# Altium integrated library Atmel RF Identification.IntLib: 23 symbols
Pins are listed as number, name and electrical type; pins without a type are passive.

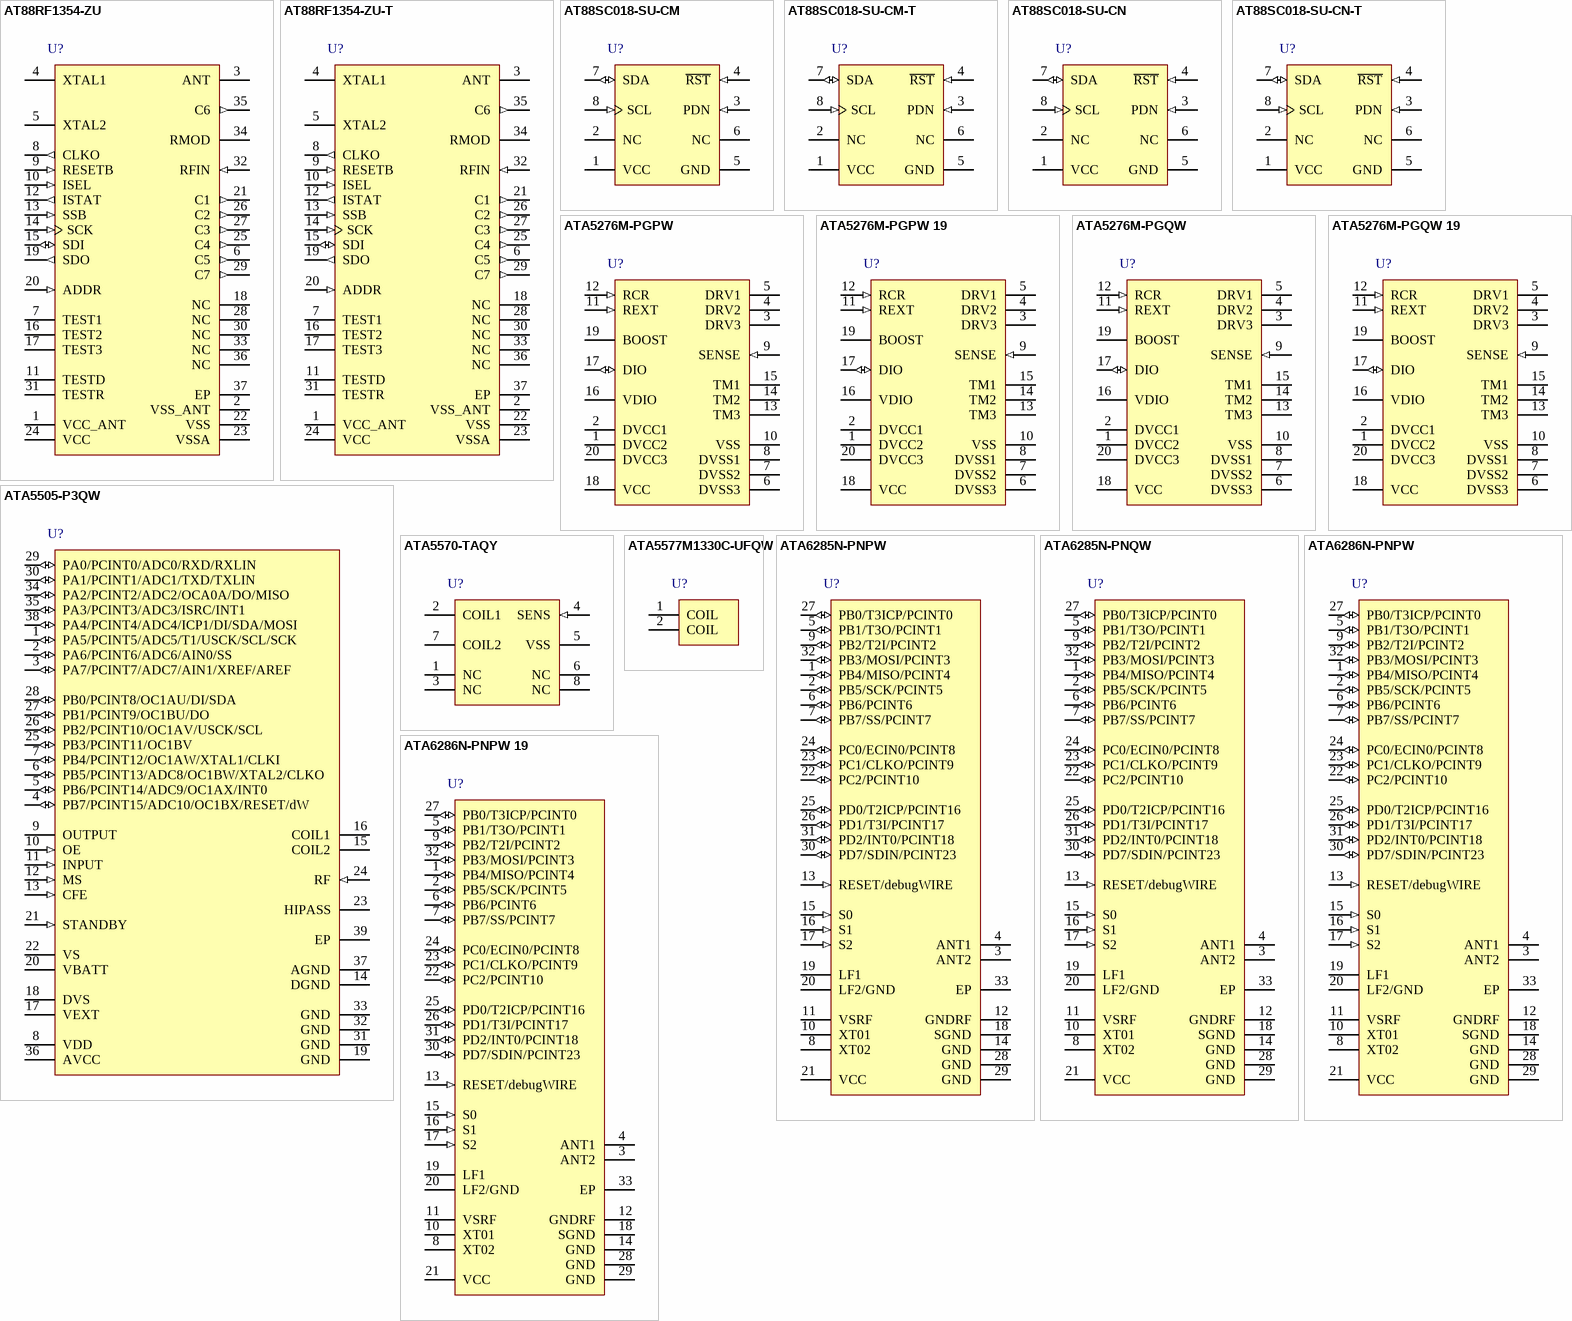
[diagram p0: symbols AT88RF1354-ZU to ATA6286N-PNPW 19]

## AT88RF1354-ZU
designator U?
13.56 MHz Type B RF Reader, 36 pin QFN thermal package, 6 x 6 mm, Green (exceeds RoHS), Industrial Grade (-40°C to 85°C),Tray; DatasheetVersion: revB, Mar-2009; PackageVersion: revA, Aug-2008; PackageReference: 36ML1; PackageDescription: 36-Pin Molded Quad Flat No-Lead, 6 x 6 mm Body, 0.5 mm Pitch, Punched (QFN); Code_JEDEC: MO-220WJJD-1; ComponentLink1Description: Manufacturer URL; ComponentLink1URL: http://www.atmel.com/; ComponentLink2Description: AT88RF1354 Datasheet; ComponentLink2URL: http://www.atmel.com/Images/doc8547.pdf
footprint 36ML1_N (QFN, 36-Leads, Body 6x6mm, Pitch 0.5mm, Thermal Pad 3.8x3.8mm, IPC Medium Density)
footprint 36ML1_L (QFN, 36-Leads, Body 6x6mm, Pitch 0.5mm, Thermal Pad 3.8x3.8mm, IPC High Density)
footprint 36ML1_M (QFN, 36-Leads, Body 6x6mm, Pitch 0.5mm, Thermal Pad 3.8x3.8mm, IPC Low Density)
pins: 1 VCC_ANT (power), 2 VSS_ANT (power), 3 ANT (oc), 4 XTAL1, 5 XTAL2, 6 C5 (out), 7 TEST1, 8 CLKO (out), 9 RESETB (in), 10 ISEL (in), 11 TESTD, 12 ISTAT (out), 13 SSB (in), 14 SCK (in), 15 SDI (io), 16 TEST2, 17 TEST3, 18 NC, 19 SDO (out), 20 ADDR (in), 21 C1 (out), 22 VSS (power), 23 VSSA (power), 24 VCC (power), 25 C4 (out), 26 C2 (out), 27 C3 (out), 28 NC, 29 C7 (out), 30 NC, 31 TESTR, 32 RFIN (in), 33 NC, 34 RMOD, 35 C6 (out), 36 NC, 37 EP (power)

## AT88RF1354-ZU-T
designator U?
13.56 MHz Type B RF Reader, 36 pin QFN thermal package, 6 x 6 mm, Green (exceeds RoHS), Industrial Grade (-40°C to 85°C), Reel; DatasheetVersion: revB, Mar-2009; PackageVersion: revA, Aug-2008; PackageReference: 36ML1; PackageDescription: 36-Pin Molded Quad Flat No-Lead, 6 x 6 mm Body, 0.5 mm Pitch, Punched (QFN); Code_JEDEC: MO-220WJJD-1; ComponentLink1Description: Manufacturer URL; ComponentLink1URL: http://www.atmel.com/; ComponentLink2Description: AT88RF1354 Datasheet; ComponentLink2URL: http://www.atmel.com/Images/doc8547.pdf
footprint 36ML1_N (QFN, 36-Leads, Body 6x6mm, Pitch 0.5mm, Thermal Pad 3.8x3.8mm, IPC Medium Density)
footprint 36ML1_L (QFN, 36-Leads, Body 6x6mm, Pitch 0.5mm, Thermal Pad 3.8x3.8mm, IPC High Density)
footprint 36ML1_M (QFN, 36-Leads, Body 6x6mm, Pitch 0.5mm, Thermal Pad 3.8x3.8mm, IPC Low Density)
pins: 1 VCC_ANT (power), 2 VSS_ANT (power), 3 ANT (oc), 4 XTAL1, 5 XTAL2, 6 C5 (out), 7 TEST1, 8 CLKO (out), 9 RESETB (in), 10 ISEL (in), 11 TESTD, 12 ISTAT (out), 13 SSB (in), 14 SCK (in), 15 SDI (io), 16 TEST2, 17 TEST3, 18 NC, 19 SDO (out), 20 ADDR (in), 21 C1 (out), 22 VSS (power), 23 VSSA (power), 24 VCC (power), 25 C4 (out), 26 C2 (out), 27 C3 (out), 28 NC, 29 C7 (out), 30 NC, 31 TESTR, 32 RFIN (in), 33 NC, 34 RMOD, 35 C6 (out), 36 NC, 37 EP (power)

## AT88SC018-SU-CM
designator U?
CryptoCompanion Chip for CryptoMemory and CryptoRF, Memory Locking, 8-Pin SOIC, GreenCompliant (exceeds RoHS), Industrial Grade (-40°C to 85°C), Bulk; DatasheetVersion: revC, Sep-2009; PackageVersion: revC, Mar-2005; PackageReference: 8S1; PackageDescription: 8-Lead (0.150" Wide Body), Plastic Gull Wing Small Outline (JEDEC SOIC); Code_JEDEC: MS-012-AA; Code_IPC: SOIC127P600-8; ComponentLink1Description: Manufacturer URL; ComponentLink1URL: http://www.atmel.com/; ComponentLink2Description: AT88SC018 Datasheet; ComponentLink2URL: http://www.atmel.com/Images/doc5277.pdf
footprint 8S1_N (SOIC, 8-Leads, Body 4.9x3.9mm, Pitch 1.27mm, IPC Medium Density)
footprint 8S1_L (SOIC, 8-Leads, Body 4.9x3.9mm, Pitch 1.27mm, IPC High Density)
footprint 8S1_M (SOIC, 8-Leads, Body 4.9x3.9mm, Pitch 1.27mm, IPC Low Density)
pins: 1 VCC (power), 2 NC, 3 PDN (in), 4 ~{RST} (in), 5 GND (power), 6 NC, 7 SDA (io), 8 SCL (in)

## AT88SC018-SU-CM-T
designator U?
CryptoCompanion Chip for CryptoMemory and CryptoRF, Memory Locking, 8-Pin SOIC, GreenCompliant (exceeds RoHS), Industrial Grade (-40°C to 85°C), Reel; DatasheetVersion: revC, Sep-2009; PackageVersion: revC, Mar-2005; PackageReference: 8S1; PackageDescription: 8-Lead (0.150" Wide Body), Plastic Gull Wing Small Outline (JEDEC SOIC); Code_JEDEC: MS-012-AA; Code_IPC: SOIC127P600-8; ComponentLink1Description: Manufacturer URL; ComponentLink1URL: http://www.atmel.com/; ComponentLink2Description: AT88SC018 Datasheet; ComponentLink2URL: http://www.atmel.com/Images/doc5277.pdf
footprint 8S1_N (SOIC, 8-Leads, Body 4.9x3.9mm, Pitch 1.27mm, IPC Medium Density)
footprint 8S1_L (SOIC, 8-Leads, Body 4.9x3.9mm, Pitch 1.27mm, IPC High Density)
footprint 8S1_M (SOIC, 8-Leads, Body 4.9x3.9mm, Pitch 1.27mm, IPC Low Density)
pins: 1 VCC (power), 2 NC, 3 PDN (in), 4 ~{RST} (in), 5 GND (power), 6 NC, 7 SDA (io), 8 SCL (in)

## AT88SC018-SU-CN
designator U?
CryptoCompanion Chip for CryptoMemory and CryptoRF, Memory Locking, 8-Pin SOIC, GreenCompliant (exceeds RoHS), Industrial Grade (-40°C to 85°C), Bulk; DatasheetVersion: revC, Sep-2009; PackageVersion: revC, Mar-2005; PackageReference: 8S1; PackageDescription: 8-Lead (0.150" Wide Body), Plastic Gull Wing Small Outline (JEDEC SOIC); Code_JEDEC: MS-012-AA; Code_IPC: SOIC127P600-8; ComponentLink1Description: Manufacturer URL; ComponentLink1URL: http://www.atmel.com/; ComponentLink2Description: AT88SC018 Datasheet; ComponentLink2URL: http://www.atmel.com/Images/doc5277.pdf
footprint 8S1_N (SOIC, 8-Leads, Body 4.9x3.9mm, Pitch 1.27mm, IPC Medium Density)
footprint 8S1_L (SOIC, 8-Leads, Body 4.9x3.9mm, Pitch 1.27mm, IPC High Density)
footprint 8S1_M (SOIC, 8-Leads, Body 4.9x3.9mm, Pitch 1.27mm, IPC Low Density)
pins: 1 VCC (power), 2 NC, 3 PDN (in), 4 ~{RST} (in), 5 GND (power), 6 NC, 7 SDA (io), 8 SCL (in)

## AT88SC018-SU-CN-T
designator U?
CryptoCompanion Chip for CryptoMemory and CryptoRF, Memory Locking, 8-Pin SOIC, GreenCompliant (exceeds RoHS), Industrial Grade (-40°C to 85°C), Reel; DatasheetVersion: revC, Sep-2009; PackageVersion: revC, Mar-2005; PackageReference: 8S1; PackageDescription: 8-Lead (0.150" Wide Body), Plastic Gull Wing Small Outline (JEDEC SOIC); Code_JEDEC: MS-012-AA; Code_IPC: SOIC127P600-8; ComponentLink1Description: Manufacturer URL; ComponentLink1URL: http://www.atmel.com/; ComponentLink2Description: AT88SC018 Datasheet; ComponentLink2URL: http://www.atmel.com/Images/doc5277.pdf
footprint 8S1_N (SOIC, 8-Leads, Body 4.9x3.9mm, Pitch 1.27mm, IPC Medium Density)
footprint 8S1_L (SOIC, 8-Leads, Body 4.9x3.9mm, Pitch 1.27mm, IPC High Density)
footprint 8S1_M (SOIC, 8-Leads, Body 4.9x3.9mm, Pitch 1.27mm, IPC Low Density)
pins: 1 VCC (power), 2 NC, 3 PDN (in), 4 ~{RST} (in), 5 GND (power), 6 NC, 7 SDA (io), 8 SCL (in)

## ATA5276M-PGPW
designator U?
Integrated 1.5A Peak Current BCDMOS Antenna Driver, for 125 kHz Wake-up Channel Transmitter for TPM, 20-Pin QFN, -40°C to 105°C, Pb-Free, 1.5K Reel; DatasheetVersion: revC, Jan-2007; PackageVersion: rev3, Jan-2003; PackageReference: PG20; PackageDescription: 20-Pin Quad Flat No-Lead, 5 x 5 mm Body, 0.65 mm Pitch, 2.7 x 2.7 mm Exposed Pad; Code_JEDEC: MO-220; ComponentLink1Description: Manufacturer URL; ComponentLink1URL: http://www.atmel.com/; ComponentLink2Description: ATA5276M Datasheet; ComponentLink2URL: http://www.atmel.com/Images/doc4909.pdf
footprint PG20_N (QFN, 20-Leads, Body 5x5mm, Pitch 0.65mm, Thermal Pad 2.7x2.7mm, IPC Medium Density)
footprint PG20_L (QFN, 20-Leads, Body 5x5mm, Pitch 0.65mm, Thermal Pad 2.7x2.7mm, IPC High Density)
footprint PG20_M (QFN, 20-Leads, Body 5x5mm, Pitch 0.65mm, Thermal Pad 2.7x2.7mm, IPC Low Density)
pins: 1 DVCC2 (power), 2 DVCC1 (power), 3 DRV3, 4 DRV2, 5 DRV1, 6 DVSS3 (power), 7 DVSS2 (power), 8 DVSS1 (power), 9 SENSE (in), 10 VSS (power), 11 REXT (in), 12 RCR (in), 13 TM3, 14 TM2, 15 TM1, 16 VDIO (power), 17 DIO (io), 18 VCC (power), 19 BOOST, 20 DVCC3 (power)

## ATA5276M-PGPW 19
designator U?
Integrated 1.5A Peak Current BCDMOS Antenna Driver, for 125 kHz Wake-up Channel Transmitter for TPM, 20-Pin QFN, -40°C to 105°C, Pb-Free, 1.5K Reel; DatasheetVersion: revC, Jan-2007; PackageVersion: rev3, Jan-2003; PackageReference: PG20; PackageDescription: 20-Pin Quad Flat No-Lead, 5 x 5 mm Body, 0.65 mm Pitch, 2.7 x 2.7 mm Exposed Pad; Code_JEDEC: MO-220; ComponentLink1Description: Manufacturer URL; ComponentLink1URL: http://www.atmel.com/; ComponentLink2Description: ATA5276M Datasheet; ComponentLink2URL: http://www.atmel.com/Images/doc4909.pdf
footprint PG20_N (QFN, 20-Leads, Body 5x5mm, Pitch 0.65mm, Thermal Pad 2.7x2.7mm, IPC Medium Density)
footprint PG20_L (QFN, 20-Leads, Body 5x5mm, Pitch 0.65mm, Thermal Pad 2.7x2.7mm, IPC High Density)
footprint PG20_M (QFN, 20-Leads, Body 5x5mm, Pitch 0.65mm, Thermal Pad 2.7x2.7mm, IPC Low Density)
pins: 1 DVCC2 (power), 2 DVCC1 (power), 3 DRV3, 4 DRV2, 5 DRV1, 6 DVSS3 (power), 7 DVSS2 (power), 8 DVSS1 (power), 9 SENSE (in), 10 VSS (power), 11 REXT (in), 12 RCR (in), 13 TM3, 14 TM2, 15 TM1, 16 VDIO (power), 17 DIO (io), 18 VCC (power), 19 BOOST, 20 DVCC3 (power)

## ATA5276M-PGQW
designator U?
Integrated 1.5A Peak Current BCDMOS Antenna Driver, for 125 kHz Wake-up Channel Transmitter for TPM, 20-Pin QFN, -40°C to 105°C, Pb-Free, 6K Reel; DatasheetVersion: revC, Jan-2007; PackageVersion: rev3, Jan-2003; PackageReference: PG20; PackageDescription: 20-Pin Quad Flat No-Lead, 5 x 5 mm Body, 0.65 mm Pitch, 2.7 x 2.7 mm Exposed Pad; Code_JEDEC: MO-220; ComponentLink1Description: Manufacturer URL; ComponentLink1URL: http://www.atmel.com/; ComponentLink2Description: ATA5276M Datasheet; ComponentLink2URL: http://www.atmel.com/Images/doc4909.pdf
footprint PG20_N (QFN, 20-Leads, Body 5x5mm, Pitch 0.65mm, Thermal Pad 2.7x2.7mm, IPC Medium Density)
footprint PG20_L (QFN, 20-Leads, Body 5x5mm, Pitch 0.65mm, Thermal Pad 2.7x2.7mm, IPC High Density)
footprint PG20_M (QFN, 20-Leads, Body 5x5mm, Pitch 0.65mm, Thermal Pad 2.7x2.7mm, IPC Low Density)
pins: 1 DVCC2 (power), 2 DVCC1 (power), 3 DRV3, 4 DRV2, 5 DRV1, 6 DVSS3 (power), 7 DVSS2 (power), 8 DVSS1 (power), 9 SENSE (in), 10 VSS (power), 11 REXT (in), 12 RCR (in), 13 TM3, 14 TM2, 15 TM1, 16 VDIO (power), 17 DIO (io), 18 VCC (power), 19 BOOST, 20 DVCC3 (power)

## ATA5276M-PGQW 19
designator U?
Integrated 1.5A Peak Current BCDMOS Antenna Driver, for 125 kHz Wake-up Channel Transmitter for TPM, 20-Pin QFN, -40°C to 105°C, Pb-Free, 6K Reel; DatasheetVersion: revC, Jan-2007; PackageVersion: rev3, Jan-2003; PackageReference: PG20; PackageDescription: 20-Pin Quad Flat No-Lead, 5 x 5 mm Body, 0.65 mm Pitch, 2.7 x 2.7 mm Exposed Pad; Code_JEDEC: MO-220; ComponentLink1Description: Manufacturer URL; ComponentLink1URL: http://www.atmel.com/; ComponentLink2Description: ATA5276M Datasheet; ComponentLink2URL: http://www.atmel.com/Images/doc4909.pdf
footprint PG20_N (QFN, 20-Leads, Body 5x5mm, Pitch 0.65mm, Thermal Pad 2.7x2.7mm, IPC Medium Density)
footprint PG20_L (QFN, 20-Leads, Body 5x5mm, Pitch 0.65mm, Thermal Pad 2.7x2.7mm, IPC High Density)
footprint PG20_M (QFN, 20-Leads, Body 5x5mm, Pitch 0.65mm, Thermal Pad 2.7x2.7mm, IPC Low Density)
pins: 1 DVCC2 (power), 2 DVCC1 (power), 3 DRV3, 4 DRV2, 5 DRV1, 6 DVSS3 (power), 7 DVSS2 (power), 8 DVSS1 (power), 9 SENSE (in), 10 VSS (power), 11 REXT (in), 12 RCR (in), 13 TM3, 14 TM2, 15 TM1, 16 VDIO (power), 17 DIO (io), 18 VCC (power), 19 BOOST, 20 DVCC3 (power)

## ATA5505-P3QW
designator U?
AVR 8-bit 16k Flash Microcontroller with integrated 100-150 kHz LF-RFID Reader/Writer, 38-Pin QFN, 5 x 7 mm, Green; DatasheetVersion: revB, Jul-2011; PackageVersion: rev1, Aug-2008; PackageReference: QFN38; PackageDescription: 38-Leads VQFN, 5 x 7 mm Body, 0.5 mm Pitch, 3.6 x 5.6 mm Exposed Pad; ComponentLink1Description: Manufacturer URL; ComponentLink1URL: http://www.atmel.com/; ComponentLink2Description: ATA5505 Datasheet; ComponentLink2URL: http://www.atmel.com/Images/doc9219.pdf
footprint QFN38_N (QFN, 38-Leads, Body 5x7mm, Pitch 0.5mm, Thermal Pad 3.6x5.6mm, IPC Medium Density)
footprint QFN38_L (QFN, 38-Leads, Body 5x7mm, Pitch 0.5mm, Thermal Pad 3.6x5.6mm, IPC High Density)
footprint QFN38_M (QFN, 38-Leads, Body 5x7mm, Pitch 0.5mm, Thermal Pad 3.6x5.6mm, IPC Low Density)
pins: 1 PA5/PCINT5/ADC5/T1/USCK/SCL/SCK (io), 2 PA6/PCINT6/ADC6/AIN0/SS (io), 3 PA7/PCINT7/ADC7/AIN1/XREF/AREF (io), 4 PB7/PCINT15/ADC10/OC1BX/RESET/dW (io), 5 PB6/PCINT14/ADC9/OC1AX/INT0 (io), 6 PB5/PCINT13/ADC8/OC1BW/XTAL2/CLKO (io), 7 PB4/PCINT12/OC1AW/XTAL1/CLKI (io), 8 VDD (power), 9 OUTPUT (oc), 10 OE (in), 11 INPUT (in), 12 MS (in), 13 CFE (in), 14 DGND (power), 15 COIL2, 16 COIL1, 17 VEXT (power), 18 DVS (power), 19 GND (power), 20 VBATT (power), 21 STANDBY (in), 22 VS (power), 23 HIPASS, 24 RF (in), 25 PB3/PCINT11/OC1BV (io), 26 PB2/PCINT10/OC1AV/USCK/SCL (io), 27 PB1/PCINT9/OC1BU/DO (io), 28 PB0/PCINT8/OC1AU/DI/SDA (io), 29 PA0/PCINT0/ADC0/RXD/RXLIN (io), 30 PA1/PCINT1/ADC1/TXD/TXLIN (io), 31 GND (power), 32 GND (power), 33 GND (power), 34 PA2/PCINT2/ADC2/OCA0A/DO/MISO (io), 35 PA3/PCINT3/ADC3/ISRC/INT1 (io), 36 AVCC (power), 37 AGND (power), 38 PA4/PCINT4/ADC4/ICP1/DI/SDA/MOSI (io), 39 EP (power)

## ATA5570-TAQY
designator U?
Multifunctional 330-Bit Read/Write RF Sensor Identification IC, 8-Pin SO; DatasheetVersion: revA, Jul-2005; PackageVersion: rev1, Aug-2006; PackageReference: SO8; PackageDescription: 8-Pin Small Outline Integrated Circuit 1.27 mm Pitch; ComponentLink1Description: Manufacturer URL; ComponentLink1URL: http://www.atmel.com/; ComponentLink2Description: ATA5570 Datasheet; ComponentLink2URL: http://www.atmel.com/Images/doc4863.pdf
footprint SO8_N (SOIC, 8-Leads, Body 4.9x3.8mm, Pitch 1.27mm, IPC Medium Density)
footprint SO8_L (SOIC, 8-Leads, Body 4.9x3.8mm, Pitch 1.27mm, IPC High Density)
footprint SO8_M (SOIC, 8-Leads, Body 4.9x3.8mm, Pitch 1.27mm, IPC Low Density)
pins: 1 NC, 2 COIL1, 3 NC, 4 SENS (in), 5 VSS (power), 6 NC, 7 COIL2, 8 NC

## ATA5577M1330C-UFQW
designator U?
Read/Write LF RFID IDentification IC, 100 to 150kHz, 2-Pin XDFN, 1.5 x 2 mm; DatasheetVersion: revC, Apr-2011; PackageVersion: rev1, Apr-2011; PackageReference: XDFN; PackageDescription: XDFN, 1.5 x 2 x  0.37mm Body, 1.0 mm Pitch; ComponentLink1Description: Manufacturer URL; ComponentLink1URL: http://www.atmel.com/; ComponentLink2Description: ATA5577C Datasheet; ComponentLink2URL: http://www.atmel.com/Images/doc9187.pdf
footprint XDFN (DFN, 2-Leads, Body 2.0x1.5mm, Pitch 1.0mm)
pins: 1 COIL, 2 COIL

## ATA6285N-PNPW
designator U?
Embedded AVR Microcontroller with LF-receiver and UHF-transmitter, 32-Pin QFN, 315MHz, 1.5K Reel; DatasheetVersion: revB, Nov-2010; PackageVersion: revA, Oct-2008; PackageReference: 32PG; PackageDescription: 32-Pin Quad Flat No-Lead (QFN) Sawn,  5 x 5 x 1.0 mm Body, Pitch 0.50 mm, 3.60mm Exposed Pad; Code_JEDEC: MO-220WHHD-2; ComponentLink1Description: Manufacturer URL; ComponentLink1URL: http://www.atmel.com/; ComponentLink2Description: ATA6285 Datasheet; ComponentLink2URL: http://www.atmel.com/Images/doc4958.pdf
footprint 32PG_N (QFN, 32-Leads, Body 5x5mm, Pitch 0.5mm, Thermal Pad 3.7x3.7mm, IPC Medium Density)
footprint 32PG_L (QFN, 32-Leads, Body 5x5mm, Pitch 0.5mm, Thermal Pad 3.7x3.7mm, IPC High Density)
footprint 32PG_M (QFN, 32-Leads, Body 5x5mm, Pitch 0.5mm, Thermal Pad 3.7x3.7mm, IPC Low Density)
pins: 1 PB4/MISO/PCINT4 (io), 2 PB5/SCK/PCINT5 (io), 3 ANT2, 4 ANT1, 5 PB1/T3O/PCINT1 (io), 6 PB6/PCINT6 (io), 7 PB7/SS/PCINT7 (io), 8 XT02, 9 PB2/T2I/PCINT2 (io), 10 XT01, 11 VSRF (power), 12 GNDRF (power), 13 RESET/debugWIRE (in), 14 GND (power), 15 S0 (in), 16 S1 (in), 17 S2 (in), 18 SGND (power), 19 LF1, 20 LF2/GND (power), 21 VCC (power), 22 PC2/PCINT10 (io), 23 PC1/CLKO/PCINT9 (io), 24 PC0/ECIN0/PCINT8 (io), 25 PD0/T2ICP/PCINT16 (io), 26 PD1/T3I/PCINT17 (io), 27 PB0/T3ICP/PCINT0 (io), 28 GND (power), 29 GND (power), 30 PD7/SDIN/PCINT23 (io), 31 PD2/INT0/PCINT18 (io), 32 PB3/MOSI/PCINT3 (io), 33 EP (power)

## ATA6285N-PNQW
designator U?
Embedded AVR Microcontroller with LF-receiver and UHF-transmitter, 32-Pin QFN, 315MHz, 6K Reel; DatasheetVersion: revB, Nov-2010; PackageVersion: revA, Oct-2008; PackageReference: 32PG; PackageDescription: 32-Pin Quad Flat No-Lead (QFN) Sawn,  5 x 5 x 1.0 mm Body, Pitch 0.50 mm, 3.60mm Exposed Pad; Code_JEDEC: MO-220WHHD-2; ComponentLink1Description: Manufacturer URL; ComponentLink1URL: http://www.atmel.com/; ComponentLink2Description: ATA6285 Datasheet; ComponentLink2URL: http://www.atmel.com/Images/doc4958.pdf
footprint 32PG_N (QFN, 32-Leads, Body 5x5mm, Pitch 0.5mm, Thermal Pad 3.7x3.7mm, IPC Medium Density)
footprint 32PG_L (QFN, 32-Leads, Body 5x5mm, Pitch 0.5mm, Thermal Pad 3.7x3.7mm, IPC High Density)
footprint 32PG_M (QFN, 32-Leads, Body 5x5mm, Pitch 0.5mm, Thermal Pad 3.7x3.7mm, IPC Low Density)
pins: 1 PB4/MISO/PCINT4 (io), 2 PB5/SCK/PCINT5 (io), 3 ANT2, 4 ANT1, 5 PB1/T3O/PCINT1 (io), 6 PB6/PCINT6 (io), 7 PB7/SS/PCINT7 (io), 8 XT02, 9 PB2/T2I/PCINT2 (io), 10 XT01, 11 VSRF (power), 12 GNDRF (power), 13 RESET/debugWIRE (in), 14 GND (power), 15 S0 (in), 16 S1 (in), 17 S2 (in), 18 SGND (power), 19 LF1, 20 LF2/GND (power), 21 VCC (power), 22 PC2/PCINT10 (io), 23 PC1/CLKO/PCINT9 (io), 24 PC0/ECIN0/PCINT8 (io), 25 PD0/T2ICP/PCINT16 (io), 26 PD1/T3I/PCINT17 (io), 27 PB0/T3ICP/PCINT0 (io), 28 GND (power), 29 GND (power), 30 PD7/SDIN/PCINT23 (io), 31 PD2/INT0/PCINT18 (io), 32 PB3/MOSI/PCINT3 (io), 33 EP (power)

## ATA6286N-PNPW
designator U?
Embedded AVR Microcontroller with LF-receiver and UHF-transmitter, 32-Pin QFN, 433MHz, 1.5K Reel; DatasheetVersion: revB, Nov-2010; PackageVersion: revA, Oct-2008; PackageReference: 32PG; PackageDescription: 32-Pin Quad Flat No-Lead (QFN) Sawn,  5 x 5 x 1.0 mm Body, Pitch 0.50 mm, 3.60mm Exposed Pad; Code_JEDEC: MO-220WHHD-2; ComponentLink1Description: Manufacturer URL; ComponentLink1URL: http://www.atmel.com/; ComponentLink2Description: ATA6286 Datasheet; ComponentLink2URL: http://www.atmel.com/Images/doc4958.pdf
footprint 32PG_N (QFN, 32-Leads, Body 5x5mm, Pitch 0.5mm, Thermal Pad 3.7x3.7mm, IPC Medium Density)
footprint 32PG_L (QFN, 32-Leads, Body 5x5mm, Pitch 0.5mm, Thermal Pad 3.7x3.7mm, IPC High Density)
footprint 32PG_M (QFN, 32-Leads, Body 5x5mm, Pitch 0.5mm, Thermal Pad 3.7x3.7mm, IPC Low Density)
pins: 1 PB4/MISO/PCINT4 (io), 2 PB5/SCK/PCINT5 (io), 3 ANT2, 4 ANT1, 5 PB1/T3O/PCINT1 (io), 6 PB6/PCINT6 (io), 7 PB7/SS/PCINT7 (io), 8 XT02, 9 PB2/T2I/PCINT2 (io), 10 XT01, 11 VSRF (power), 12 GNDRF (power), 13 RESET/debugWIRE (in), 14 GND (power), 15 S0 (in), 16 S1 (in), 17 S2 (in), 18 SGND (power), 19 LF1, 20 LF2/GND (power), 21 VCC (power), 22 PC2/PCINT10 (io), 23 PC1/CLKO/PCINT9 (io), 24 PC0/ECIN0/PCINT8 (io), 25 PD0/T2ICP/PCINT16 (io), 26 PD1/T3I/PCINT17 (io), 27 PB0/T3ICP/PCINT0 (io), 28 GND (power), 29 GND (power), 30 PD7/SDIN/PCINT23 (io), 31 PD2/INT0/PCINT18 (io), 32 PB3/MOSI/PCINT3 (io), 33 EP (power)

## ATA6286N-PNPW 19
designator U?
Embedded AVR Microcontroller with LF-receiver and UHF-transmitter, 32-Pin QFN, 433MHz, 1.5K Reel; DatasheetVersion: revB, Nov-2010; PackageVersion: revA, Oct-2008; PackageReference: 32PG; PackageDescription: 32-Pin Quad Flat No-Lead (QFN) Sawn,  5 x 5 x 1.0 mm Body, Pitch 0.50 mm, 3.60mm Exposed Pad; Code_JEDEC: MO-220WHHD-2; ComponentLink1Description: Manufacturer URL; ComponentLink1URL: http://www.atmel.com/; ComponentLink2Description: ATA6286 Datasheet; ComponentLink2URL: http://www.atmel.com/Images/doc4958.pdf
footprint 32PG_N (QFN, 32-Leads, Body 5x5mm, Pitch 0.5mm, Thermal Pad 3.7x3.7mm, IPC Medium Density)
footprint 32PG_L (QFN, 32-Leads, Body 5x5mm, Pitch 0.5mm, Thermal Pad 3.7x3.7mm, IPC High Density)
footprint 32PG_M (QFN, 32-Leads, Body 5x5mm, Pitch 0.5mm, Thermal Pad 3.7x3.7mm, IPC Low Density)
pins: 1 PB4/MISO/PCINT4 (io), 2 PB5/SCK/PCINT5 (io), 3 ANT2, 4 ANT1, 5 PB1/T3O/PCINT1 (io), 6 PB6/PCINT6 (io), 7 PB7/SS/PCINT7 (io), 8 XT02, 9 PB2/T2I/PCINT2 (io), 10 XT01, 11 VSRF (power), 12 GNDRF (power), 13 RESET/debugWIRE (in), 14 GND (power), 15 S0 (in), 16 S1 (in), 17 S2 (in), 18 SGND (power), 19 LF1, 20 LF2/GND (power), 21 VCC (power), 22 PC2/PCINT10 (io), 23 PC1/CLKO/PCINT9 (io), 24 PC0/ECIN0/PCINT8 (io), 25 PD0/T2ICP/PCINT16 (io), 26 PD1/T3I/PCINT17 (io), 27 PB0/T3ICP/PCINT0 (io), 28 GND (power), 29 GND (power), 30 PD7/SDIN/PCINT23 (io), 31 PD2/INT0/PCINT18 (io), 32 PB3/MOSI/PCINT3 (io), 33 EP (power)

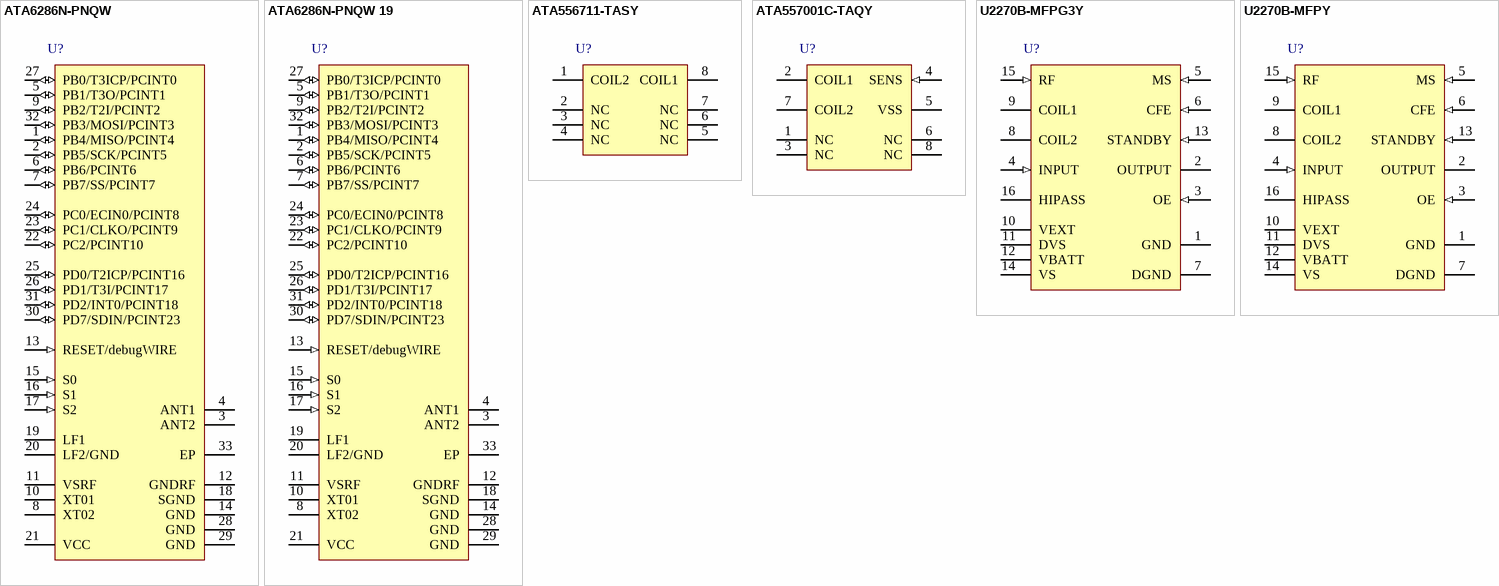
[diagram p1: symbols ATA6286N-PNQW to U2270B-MFPY]

## ATA6286N-PNQW
designator U?
Embedded AVR Microcontroller with LF-receiver and UHF-transmitter, 32-Pin QFN, 433MHz, 6K Reel; DatasheetVersion: revB, Nov-2010; PackageVersion: revA, Oct-2008; PackageReference: 32PG; PackageDescription: 32-Pin Quad Flat No-Lead (QFN) Sawn,  5 x 5 x 1.0 mm Body, Pitch 0.50 mm, 3.60mm Exposed Pad; Code_JEDEC: MO-220WHHD-2; ComponentLink1Description: Manufacturer URL; ComponentLink1URL: http://www.atmel.com/; ComponentLink2Description: ATA6286 Datasheet; ComponentLink2URL: http://www.atmel.com/Images/doc4958.pdf
footprint 32PG_N (QFN, 32-Leads, Body 5x5mm, Pitch 0.5mm, Thermal Pad 3.7x3.7mm, IPC Medium Density)
footprint 32PG_L (QFN, 32-Leads, Body 5x5mm, Pitch 0.5mm, Thermal Pad 3.7x3.7mm, IPC High Density)
footprint 32PG_M (QFN, 32-Leads, Body 5x5mm, Pitch 0.5mm, Thermal Pad 3.7x3.7mm, IPC Low Density)
pins: 1 PB4/MISO/PCINT4 (io), 2 PB5/SCK/PCINT5 (io), 3 ANT2, 4 ANT1, 5 PB1/T3O/PCINT1 (io), 6 PB6/PCINT6 (io), 7 PB7/SS/PCINT7 (io), 8 XT02, 9 PB2/T2I/PCINT2 (io), 10 XT01, 11 VSRF (power), 12 GNDRF (power), 13 RESET/debugWIRE (in), 14 GND (power), 15 S0 (in), 16 S1 (in), 17 S2 (in), 18 SGND (power), 19 LF1, 20 LF2/GND (power), 21 VCC (power), 22 PC2/PCINT10 (io), 23 PC1/CLKO/PCINT9 (io), 24 PC0/ECIN0/PCINT8 (io), 25 PD0/T2ICP/PCINT16 (io), 26 PD1/T3I/PCINT17 (io), 27 PB0/T3ICP/PCINT0 (io), 28 GND (power), 29 GND (power), 30 PD7/SDIN/PCINT23 (io), 31 PD2/INT0/PCINT18 (io), 32 PB3/MOSI/PCINT3 (io), 33 EP (power)

## ATA6286N-PNQW 19
designator U?
Embedded AVR Microcontroller with LF-receiver and UHF-transmitter, 32-Pin QFN, 433MHz, 6K Reel; DatasheetVersion: revB, Nov-2010; PackageVersion: revA, Oct-2008; PackageReference: 32PG; PackageDescription: 32-Pin Quad Flat No-Lead (QFN) Sawn,  5 x 5 x 1.0 mm Body, Pitch 0.50 mm, 3.60mm Exposed Pad; Code_JEDEC: MO-220WHHD-2; ComponentLink1Description: Manufacturer URL; ComponentLink1URL: http://www.atmel.com/; ComponentLink2Description: ATA6286 Datasheet; ComponentLink2URL: http://www.atmel.com/Images/doc4958.pdf
footprint 32PG_N (QFN, 32-Leads, Body 5x5mm, Pitch 0.5mm, Thermal Pad 3.7x3.7mm, IPC Medium Density)
footprint 32PG_L (QFN, 32-Leads, Body 5x5mm, Pitch 0.5mm, Thermal Pad 3.7x3.7mm, IPC High Density)
footprint 32PG_M (QFN, 32-Leads, Body 5x5mm, Pitch 0.5mm, Thermal Pad 3.7x3.7mm, IPC Low Density)
pins: 1 PB4/MISO/PCINT4 (io), 2 PB5/SCK/PCINT5 (io), 3 ANT2, 4 ANT1, 5 PB1/T3O/PCINT1 (io), 6 PB6/PCINT6 (io), 7 PB7/SS/PCINT7 (io), 8 XT02, 9 PB2/T2I/PCINT2 (io), 10 XT01, 11 VSRF (power), 12 GNDRF (power), 13 RESET/debugWIRE (in), 14 GND (power), 15 S0 (in), 16 S1 (in), 17 S2 (in), 18 SGND (power), 19 LF1, 20 LF2/GND (power), 21 VCC (power), 22 PC2/PCINT10 (io), 23 PC1/CLKO/PCINT9 (io), 24 PC0/ECIN0/PCINT8 (io), 25 PD0/T2ICP/PCINT16 (io), 26 PD1/T3I/PCINT17 (io), 27 PB0/T3ICP/PCINT0 (io), 28 GND (power), 29 GND (power), 30 PD7/SDIN/PCINT23 (io), 31 PD2/INT0/PCINT18 (io), 32 PB3/MOSI/PCINT3 (io), 33 EP (power)

## ATA556711-TASY
designator U?
Multifunctional 330-Bit Read/Write RF Sensor Identification IC, 125kHz, 8-Pin SO; DatasheetVersion: revF, Jul-2008; PackageVersion: rev1, Aug-2006; PackageReference: SO8; PackageDescription: 8-Pin Small Outline Integrated Circuit 1.27 mm Pitch; ComponentLink1Description: Manufacturer URL; ComponentLink1URL: http://www.atmel.com/; ComponentLink2Description: ATA5567 Datasheet; ComponentLink2URL: http://www.atmel.com/Images/doc4874.pdf
footprint SO8_N (SOIC, 8-Leads, Body 4.9x3.8mm, Pitch 1.27mm, IPC Medium Density)
footprint SO8_L (SOIC, 8-Leads, Body 4.9x3.8mm, Pitch 1.27mm, IPC High Density)
footprint SO8_M (SOIC, 8-Leads, Body 4.9x3.8mm, Pitch 1.27mm, IPC Low Density)
pins: 1 COIL2, 2 NC, 3 NC, 4 NC, 5 NC, 6 NC, 7 NC, 8 COIL1

## ATA557001C-TAQY
designator U?
Multifunctional 330-Bit Read/Write RF Sensor Identification IC, 125kHz, 8-Pin SO; DatasheetVersion: revB, May-2011; PackageVersion: rev1, Aug-2006; PackageReference: SO8; PackageDescription: 8-Pin Small Outline Integrated Circuit 1.27 mm Pitch; ComponentLink1Description: Manufacturer URL; ComponentLink1URL: http://www.atmel.com/; ComponentLink2Description: ATA5570C Datasheet; ComponentLink2URL: http://www.atmel.com/Images/doc9191.pdf
footprint SO8_N (SOIC, 8-Leads, Body 4.9x3.8mm, Pitch 1.27mm, IPC Medium Density)
footprint SO8_L (SOIC, 8-Leads, Body 4.9x3.8mm, Pitch 1.27mm, IPC High Density)
footprint SO8_M (SOIC, 8-Leads, Body 4.9x3.8mm, Pitch 1.27mm, IPC Low Density)
pins: 1 NC, 2 COIL1, 3 NC, 4 SENS (in), 5 VSS (power), 6 NC, 7 COIL2, 8 NC

## U2270B-MFPG3Y
designator U?
Read/Write Base Station, 16-Pin SO, Pb-Free, Reel; DatasheetVersion: revE, Feb-2008; PackageVersion: 2007; PackageReference: SO16; PackageDescription: 16-Pin Small Outline Integrated Circuit 1.27 mm Pitch; ComponentLink1Description: Manufacturer URL; ComponentLink1URL: http://www.atmel.com/; ComponentLink2Description: U2270B Datasheet; ComponentLink2URL: http://www.atmel.com/Images/doc4684.pdf
footprint SO16_N (SOIC, 16-Leads, Body 9.9x3.8mm, Pitch 1.27mm, IPC Medium Density)
footprint SO16_L (SOIC, 16-Leads, Body 9.9x3.8mm, Pitch 1.27mm, IPC High Density)
footprint SO16_M (SOIC, 16-Leads, Body 9.9x3.8mm, Pitch 1.27mm, IPC Low Density)
pins: 1 GND (power), 2 OUTPUT (oc), 3 OE (in), 4 INPUT (in), 5 MS (in), 6 CFE (in), 7 DGND (power), 8 COIL2, 9 COIL1, 10 VEXT (power), 11 DVS (power), 12 VBATT (power), 13 STANDBY (in), 14 VS (power), 15 RF (in), 16 HIPASS

## U2270B-MFPY
designator U?
Read/Write Base Station, 16-Pin SO, Pb-Free, Tube; DatasheetVersion: revE, Feb-2008; PackageVersion: 2007; PackageReference: SO16; PackageDescription: 16-Pin Small Outline Integrated Circuit 1.27 mm Pitch; ComponentLink1Description: Manufacturer URL; ComponentLink1URL: http://www.atmel.com/; ComponentLink2Description: U2270B Datasheet; ComponentLink2URL: http://www.atmel.com/Images/doc4684.pdf
footprint SO16_N (SOIC, 16-Leads, Body 9.9x3.8mm, Pitch 1.27mm, IPC Medium Density)
footprint SO16_L (SOIC, 16-Leads, Body 9.9x3.8mm, Pitch 1.27mm, IPC High Density)
footprint SO16_M (SOIC, 16-Leads, Body 9.9x3.8mm, Pitch 1.27mm, IPC Low Density)
pins: 1 GND (power), 2 OUTPUT (oc), 3 OE (in), 4 INPUT (in), 5 MS (in), 6 CFE (in), 7 DGND (power), 8 COIL2, 9 COIL1, 10 VEXT (power), 11 DVS (power), 12 VBATT (power), 13 STANDBY (in), 14 VS (power), 15 RF (in), 16 HIPASS